# EAGLE library part CON16 (library simple-parts)
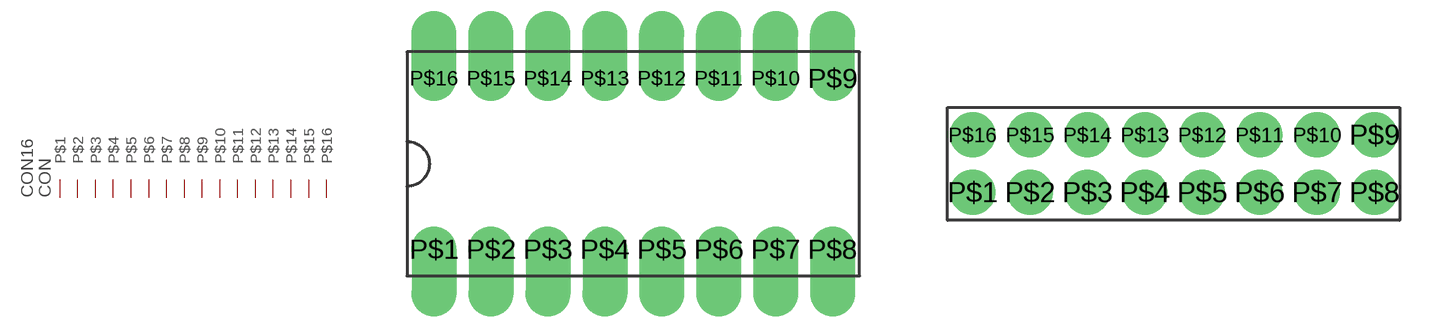
[diagram p7: symbol with the pads of ICMOUNT16; footprints ICMOUNT16, PINPLUG8X2]

Designator prefix CON

## CON16ICMOUNT16  [ICMOUNT16]
P$1  P$1
P$2  P$2
P$3  P$3
P$4  P$4
P$5  P$5
P$6  P$6
P$7  P$7
P$8  P$8
P$9  P$9
P$10  P$10
P$11  P$11
P$12  P$12
P$13  P$13
P$14  P$14
P$15  P$15
P$16  P$16

## CON16PINPLUG8X2  [PINPLUG8X2]
Pads as for ICMOUNT16

## Footprint ICMOUNT16 (pad centres in mm)
drill 0.9 pad 2 offset: P$1 -8.89,-3.81; P$2 -6.35,-3.81; P$3 -3.81,-3.81; P$4 -1.27,-3.81; P$5 1.27,-3.81; P$6 3.81,-3.81; P$7 6.35,-3.81; P$8 8.89,-3.81; P$9 8.89,3.81; P$10 6.35,3.81; P$11 3.81,3.81; P$12 1.27,3.81; P$13 -1.27,3.81; P$14 -3.81,3.81; P$15 -6.35,3.81; P$16 -8.89,3.81

## Footprint PINPLUG8X2 (pad centres in mm)
drill 0.9 pad 2: P$1 -8.89,-1.25; P$2 -6.35,-1.25; P$3 -3.81,-1.25; P$4 -1.27,-1.25; P$5 1.27,-1.25; P$6 3.81,-1.25; P$7 6.35,-1.25; P$8 8.89,-1.25; P$9 8.89,1.29; P$10 6.35,1.29; P$11 3.81,1.29; P$12 1.27,1.29; P$13 -1.27,1.29; P$14 -3.81,1.29; P$15 -6.35,1.29; P$16 -8.89,1.29